# Altium schematic symbol library Boost-Shield.SchLib: 7 symbols
Pins are listed as number, name and electrical type; pins without a type are passive.

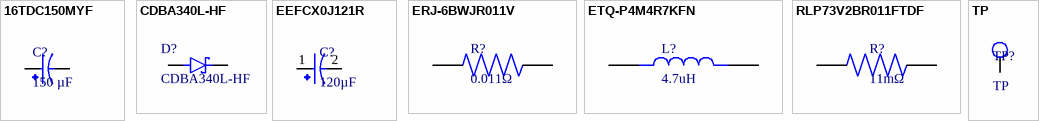
[diagram p0: symbols 16TDC150MYF to TP]

## 16TDC150MYF
designator C?, comment 150 µF
150 µF Molded Tantalum Polymer Capacitor 16 V 2917 (7343 Metric) 50mOhm @ 100kHz
footprint CAP_16TDC150MYF
pins: 1, 2

## CDBA340L-HF
designator D?
DIODE SCHOTTKY 40V 3A DO214AC; Manufacturer: Comchip; Supplier 1: Digi-Key; Manufacturer Part Number: CDBA340L-HF; RoHS: Yes; Category: Rectifier Diodes; Stock 1: 46445; Pricing 1: 1=0.60000, 10=0.53100, 100=0.40730, 500=0.32200, 1000=0.25760, 2000=0.23345 (USD); Mount: Surface Mount; Package Quantity: 5000; Packaging: Cut Tape; Average Rectified Current: 3A; Max Reverse Voltage (DC): 40V; Series: -; RoHS Compliant: Yes; ComponentLink1URL: https://datasheet.ciiva.com/6377/cdba340l-hfrevc514368-6377916.pdf?src-supplier=Digi-Key; ComponentLink1Description: https://datasheet.ciiva.com/6377/cdba340l-hfrevc514368-6377916.pdf?src-supplier=Digi-Key; Supplier Part Number 1: 641-1702-1-ND
footprint DIOM5225X250N
pins: A, C K

## EEFCX0J121R
designator C?, comment 120µF
120µF 6.3V Aluminum - Polymer Capacitors 2917 (7343 Metric) 15mOhm 2000 Hrs @ 105°C
footprint CAP_EEFCX0J121R
pins: 1, 2

## ERJ-6BWJR011V
designator R?, comment 0.011Ω
Res Thick Film 0805 0.011 Ohm 5% 1/2W ±300ppm/°C Molded SMD Punched Carrier T/R; Manufacturer: Panasonic; Manufacturer Part Number: ERJ-6BWJR011V; Resistance: 11mR; Power Rating: 500mW; Supplier 1: Digi-Key; RoHS: Yes; Category: Chip SMD Resistors; Stock 1: 4900; Pricing 1: 1=0.74000, 10=0.53000, 100=0.27540, 1000=0.14828, 2500=0.14298 (USD); Mount: Surface Mount; Case/Package: 0805; Contact Plating: Tin; Case Code (Imperial): 0805; Case Code (Metric): 2012; Min Operating Temperature: -55°C; Max Operating Temperature: 155°C; Tolerance: 5%; Resistor Type: Thick Film; Temperature Coefficient: 300ppm/°C; Package Quantity: 5000; Packaging: Tape and Reel; Termination: SMD/SMT; Number of Terminations: 2; Max Power Dissipation: 500mW; Features: Automotive AEC-Q200; Technology: THICK FILM; Series: ERJ; Construction: Rectangular; Length: 2mm; Width: 1.25mm; Height: 0.03inch; Depth: 1.25mm; Radiation Hardening: No; Military Standard: Not; Lead Free: Lead Free; RoHS Compliant: Yes; ComponentLink1URL: https://datasheet.ciiva.com/2450/aoa0000ce3-2450075.pdf?src-supplier=Digi-Key; ComponentLink1Description: https://datasheet.ciiva.com/2450/aoa0000ce3-2450075.pdf?src-supplier=Digi-Key; ComponentLink2URL: https://datasheet.ciiva.com/2450/aoa0000ce3-2450076.pdf?src-supplier=Digi-Key; ComponentLink2Description: https://datasheet.ciiva.com/2450/aoa0000ce3-2450076.pdf?src-supplier=Digi-Key; ComponentLink3URL: https://datasheet.ciiva.com/2450/aoa0000ce3-2450074.pdf?src-supplier=Digi-Key; ComponentLink3Description: https://datasheet.ciiva.com/2450/aoa0000ce3-2450074.pdf?src-supplier=Digi-Key; Supplier Part Number 1: P.011ARCT-ND
footprint RES_ERJ6BWJR011V
pins: 1, 2

## ETQ-P4M4R7KFN
designator L?, comment 4.7uH
Fixed Ind 4.7UH 7.3A 22.77MOHM; Manufacturer: Panasonic; Manufacturer Part Number: ETQ-P4M4R7KFN; Supplier 1: Digi-Key; RoHS: No; Category: Fixed Inductors; Stock 1: 1000; Pricing 1: 1=1.10000, 10=1.02600, 25=0.94720, 50=0.78920, 100=0.74190, 250=0.66296 (USD); Supplier Part Number 1: P124174CT-ND
footprint IND_ETQP4M4R7KFN
pins: 1, 2

## RLP73V2BR011FTDF
designator R?, comment 11mΩ
11 mOhms ±1% 0.5W, 1/2W Chip Resistor 1206 (3216 Metric) Current Sense Thick Film
footprint RESC3115X65N
pins: 1, 2

## TP
designator TP?
footprint TP
pins: 1